# Altium footprint library M2012TXG41-DC.PcbLib: 1 footprints
Each footprint in its own frame and in the unit in brackets; x right, y up, seen from the top. Pads: shape width x height; smd on the part's side, far side on the other; paste and mask are expansions set on the pad; w line width, h text height; cw(c..) or ccw(c..) is an arc to the next point about the centre after c.
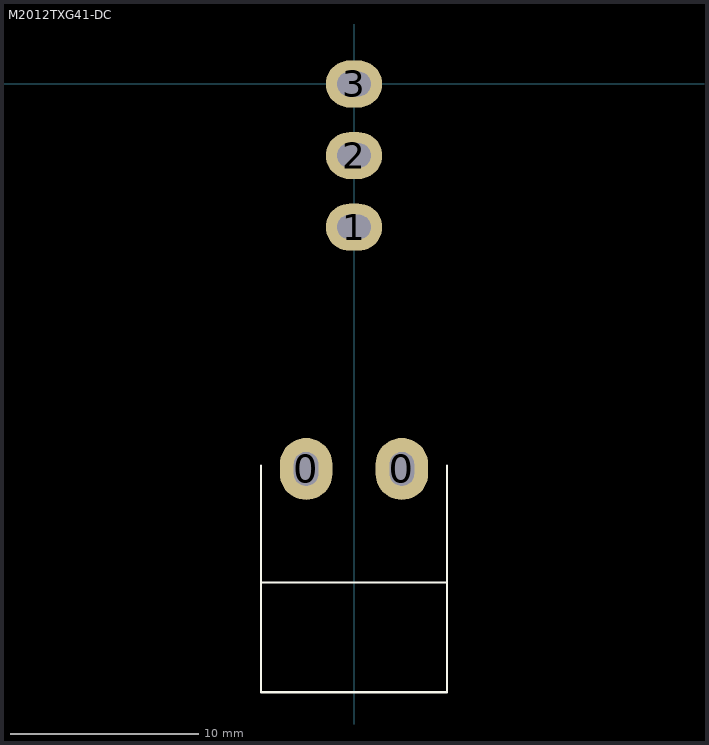
[diagram p0: the footprint, top view; thin cyan lines are the x and y axes]

## M2012TXG41-DC [mm] "SPDT, right angle, thru-hole"
pads (5):
  oval 2.8x3.3 hole 1.3 slot 1.8 at 90 deg: 0(-2.55,-20.5) 0(2.55,-20.5)
  oval 3x2.5 hole 1.3 slot 1.8 at 0 deg: 1(0,-7.62) 2(0,-3.81) 3(0,0)
Top Overlay:
  lines w0.127: -4.953,-26.543 4.953,-26.543 ; -4.953,-20.32 -4.953,-32.385 4.953,-32.385 4.953,-20.32
3D body "M2012TXW41-DA.stp": height 17.35, standoff -3.22, extent -4.636,-35.322 4.635,0.352